# Altium footprint library PCBLIB.PcbLib: 4 footprints
Each footprint in its own frame and in the unit in brackets; x right, y up, seen from the top. Pads: shape width x height; smd on the part's side, far side on the other; paste and mask are expansions set on the pad; w line width, h text height; cw(c..) or ccw(c..) is an arc to the next point about the centre after c.
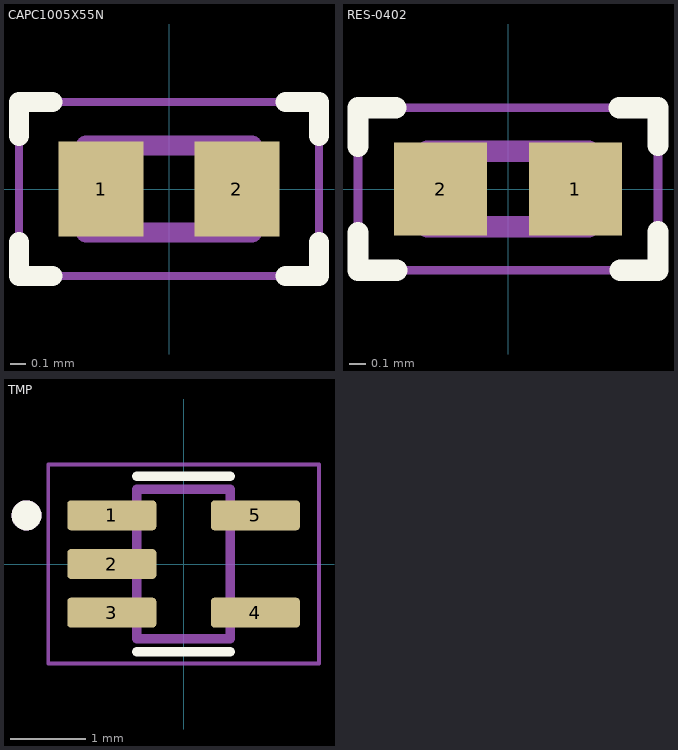
[diagram p0: the footprints below, top view; thin cyan lines are the x and y axes]

## CAPC1005X55N [mm]
pads (2):
  rect 0.54x0.6 smd: 1(-0.43,0) 2(0.43,0)
Top Overlay:
  lines w0.127: -0.95,-0.337 -0.95,-0.55 -0.737,-0.55 ; -0.95,0.337 -0.95,0.55 -0.737,0.55 ; 0.737,-0.55 0.95,-0.55 0.95,-0.337 ; 0.737,0.55 0.95,0.55 0.95,0.337
Top Assembly:
  lines w0.127: -0.525,-0.275 0.525,-0.275 0.525,0.275 -0.525,0.275 -0.525,-0.275
Mechanical 15:
  lines w0.05: -0.95,-0.55 -0.95,0.55 0.95,0.55 0.95,-0.55 -0.95,-0.55
3D body "TMK105BJ104KV-F.STEP": height 0.55, standoff 0, extent -0.5,-0.25 0.5,0.25

## PCBComponent_1 [mm]

## RES-0402 [mm]
pads (2):
  rect 0.55x0.55 smd: 1(0.4,0) 2(-0.4,0)
Top Overlay:
  lines w0.127: -0.889,-0.258 -0.889,-0.483 -0.66,-0.483 ; -0.889,0.253 -0.889,0.483 -0.664,0.483 ; 0.66,0.483 0.889,0.483 0.889,0.258 ; 0.664,-0.483 0.889,-0.483 0.889,-0.253
Top Assembly:
  lines w0.127: -0.478,-0.224 -0.478,0.224 0,0.224 0.478,0.224 0.478,-0.224 -0.478,-0.224
Mechanical 15:
  lines w0.051: -0.889,-0.283 -0.889,-0.258 ; -0.889,-0.27 -0.889,-0.483 ; -0.689,0.483 -0.664,0.483 ; -0.677,0.483 -0.889,0.483 ; 0.664,-0.483 0.689,-0.483 ; 0.677,-0.483 0.889,-0.483 ; 0.889,0.258 0.889,0.283 ; 0.889,0.27 0.889,0.483 ; -0.889,-0.483 0.889,-0.483 ; -0.889,-0.483 -0.889,0.483 ; -0.889,0.483 0.889,0.483 ; 0.889,-0.483 0.889,0.483
3D body "RC0402FR-07100RL.STEP": height 0.39, standoff -0.01, extent -0.5,-0.25 0.5,0.25

## TMP [mm]
pads (5):
  rrect25% 1.19x0.4 smd: 1(-0.96,0.65) 2(-0.96,0) 3(-0.96,-0.65) 4(0.96,-0.65) 5(0.96,0.65)
Top Overlay:
  circle w0.2: c-2.1,0.65 r0.1
  lines w0.127: -0.625,-1.17 0.625,-1.17 ; -0.625,1.17 0.625,1.17
Top Assembly:
  circle w0.2: c-2.1,0.65 r0.1
  lines w0.127: -0.625,-1 0.625,-1 0.625,1 -0.625,1 -0.625,-1
Mechanical 15:
  lines w0.05: -1.81,-1.33 -1.81,1.33 1.81,1.33 1.81,-1.33 -1.81,-1.33
3D body "step_temp.STEP": height 1.1, standoff 0, extent -1.05,-1 1.05,1